# EAGLE library part ESP32-DEVKITV4 (library ESP32-DEVKIT)
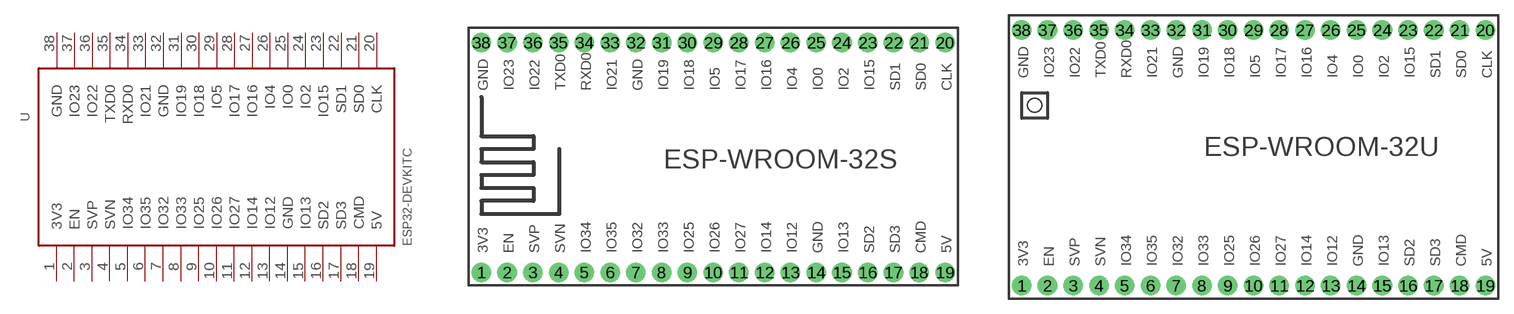
[diagram p2: symbol with the pads of ESP32-DEVKITV4-S; footprints ESP32-DEVKITV4-S, ESP32-DEVKITV4-W]

Designator prefix -

## ESP32-DEVKITV4SMALL  [ESP32-DEVKITV4-S]
1  3V3
2  EN
3  SVP
4  SVN
5  IO34
6  IO35
7  IO32
8  IO33
9  IO25
10  IO26
11  IO27
12  IO14
13  IO12
14  GND
15  IO13
16  SD2
17  SD3
18  CMD
19  5V
20  CLK
21  SD0
22  SD1
23  IO15
24  IO2
25  IO0
26  IO4
27  IO16
28  IO17
29  IO5
30  IO18
31  IO19
32  GND
33  IO21
34  RXD0
35  TXD0
36  IO22
37  IO23
38  GND

## ESP32-DEVKITV4WIDE  [ESP32-DEVKITV4-W]
Pads as for ESP32-DEVKITV4-S

## Footprint ESP32-DEVKITV4-S (pad centres in mm)
drill 1 pad 1.93: 1 -21.6,-11.42; 2 -19.06,-11.42; 3 -16.52,-11.42; 4 -13.98,-11.42; 5 -11.44,-11.42; 6 -8.9,-11.42; 7 -6.36,-11.42; 8 -3.82,-11.42; 9 -1.28,-11.42; 10 1.26,-11.42; 11 3.8,-11.42; 12 6.34,-11.42; 13 8.88,-11.42; 14 11.42,-11.42; 15 13.96,-11.42; 16 16.5,-11.42; 17 19.04,-11.42; 18 21.58,-11.42; 19 24.12,-11.42; 20 24.12,11.23; 21 21.58,11.23; 22 19.04,11.23; 23 16.5,11.23; 24 13.96,11.23; 25 11.42,11.23; 26 8.88,11.23; 27 6.34,11.23; 28 3.8,11.23; 29 1.26,11.23; 30 -1.28,11.23; 31 -3.82,11.23; 32 -6.36,11.23; 33 -8.9,11.23; 34 -11.44,11.23; 35 -13.98,11.23; 36 -16.52,11.23; 37 -19.06,11.23; 38 -21.6,11.23

## Footprint ESP32-DEVKITV4-W (pad centres in mm)
drill 1 pad 1.93: 1 -20.33,-13.96; 2 -17.79,-13.96; 3 -15.25,-13.96; 4 -12.71,-13.96; 5 -10.17,-13.96; 6 -7.63,-13.96; 7 -5.09,-13.96; 8 -2.55,-13.96; 9 -0.01,-13.96; 10 2.53,-13.96; 11 5.07,-13.96; 12 7.61,-13.96; 13 10.15,-13.96; 14 12.69,-13.96; 15 15.23,-13.96; 16 17.77,-13.96; 17 20.31,-13.96; 18 22.85,-13.96; 19 25.39,-13.96; 20 25.39,11.23; 21 22.85,11.23; 22 20.31,11.23; 23 17.77,11.23; 24 15.23,11.23; 25 12.69,11.23; 26 10.15,11.23; 27 7.61,11.23; 28 5.07,11.23; 29 2.53,11.23; 30 -0.01,11.23; 31 -2.55,11.23; 32 -5.09,11.23; 33 -7.63,11.23; 34 -10.17,11.23; 35 -12.71,11.23; 36 -15.25,11.23; 37 -17.79,11.23; 38 -20.33,11.23